# EAGLE library part 2X3_HEADER (library MM2019Libv3)
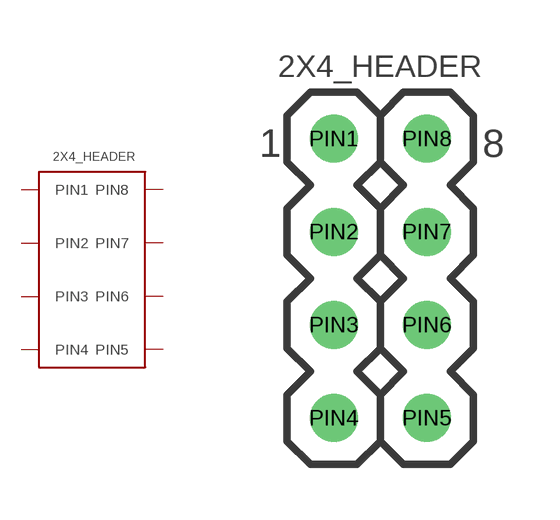
[diagram p2: symbol with the pads of 2X3_HEADER; footprint 2X3_HEADER]

Designator prefix -

## 2X3_HEADER  [2X3_HEADER]
PIN1  PIN1
PIN2  PIN2
PIN3  PIN3
PIN4  PIN4
PIN5  PIN5
PIN6  PIN6
PIN7  PIN7
PIN8  PIN8

## Footprint 2X3_HEADER (pad centres in mm)
drill 0.8: PIN1 -1.27,3.81; PIN2 -1.27,1.27; PIN3 -1.27,-1.27; PIN4 -1.27,-3.81; PIN5 1.27,-3.81; PIN6 1.27,-1.27; PIN7 1.27,1.27; PIN8 1.27,3.81